# Altium schematic symbol library 10147606-00004LF.SchLib: 1 symbol
Pins are listed as number, name and electrical type; pins without a type are passive.

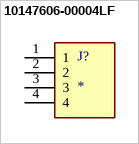
[diagram p0: symbol 10147606-00004LF]

## 10147606-00004LF
designator J?
Minitek 1.0mm R/A SMT Header, 4 Positions, Tin Plating, Natural Color; MF: AMPHENOL ICC / FCI; MP: 10147606-00004LF; SnapEDA_Link: https://www.snapeda.com/parts/10147606-00004LF/Amphenol/view-part/?ref=snap; Package: None; Value: *; Check_prices: https://www.snapeda.com/parts/10147606-00004LF/Amphenol/view-part/?ref=eda
footprint AMPHENOL_10147606-00004LF
pins: 1, 2, 3, 4